# Altium schematic symbol library Schlib_STM.SchLib: 10 symbols
Pins are listed as number, name and electrical type; pins without a type are passive.

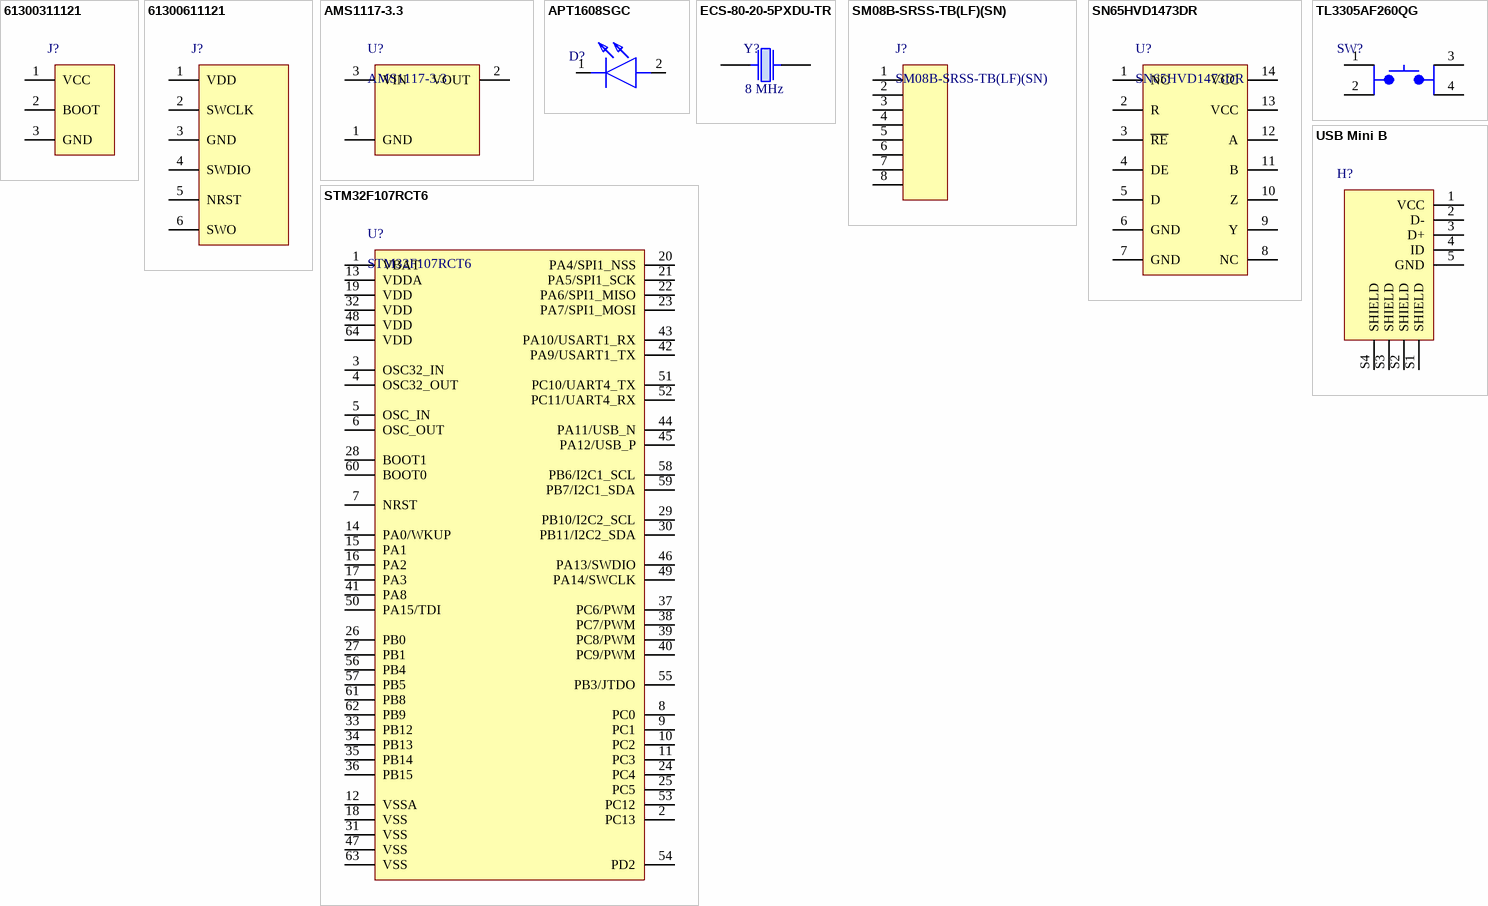
[diagram p0: symbols 61300311121 to USB Mini B]

## 61300311121
designator J?  (value not drawn)
CONN HEADER VERT 3POS 2.54MM; Manufacturer: Wurth Electronics; Number of Positions: 3; Gender: Male; Pitch: 0.1inch; Designed by: ADAK; Supplier 1: Digi-Key; Manufacturer Part Number: 61300311121; RoHS: Yes; Category: Connectors; Stock 1: 116212; Pricing 1: 1=0,13, 10=0,113, 25=0,094, 50=0,079, 100=0,071, 1000=0,066 (USD); Mount: Through Hole; Contact Plating: Gold; Contact Material: Copper; Color: Black; Number of Rows: 1; Packaging: Bulk; Termination: Solder; Number of Contacts: 3; Series: WR-PHD; Contact Type: Male Pin; Contact Mating Length: 0.236inch; Lead Free: Lead Free; RoHS Compliant: Yes; Reach SVHC Compliant: Unknown; ComponentLink1URL: http://www.farnell.com/cad/1737268.pdf?src-supplier=Element14; ComponentLink1Description: http://www.farnell.com/cad/1737268.pdf?src-supplier=Element14; ComponentLink2URL: https://datasheet.octopart.com/61300311121-W%C3%BCrth-Elektronik-datasheet-21154836.pdf?src-supplier=Element14; ComponentLink2Description: https://datasheet.octopart.com/61300311121-W%C3%BCrth-Elektronik-datasheet-21154836.pdf?src-supplier=Element14; ComponentLink3URL: https://katalog.we-online.de/em/datasheet/6130xx11121.pdf?src-supplier=Digi-Key; ComponentLink3Description: https://katalog.we-online.de/em/datasheet/6130xx11121.pdf?src-supplier=Digi-Key; Supplier Part Number 1: 732-5316-ND
footprint BOOT HEADER
pins: 1 VCC, 2 BOOT, 3 GND

## 61300611121
designator J?  (value not drawn)
CONN HEADER VERT 6POS 2.54MM; Manufacturer: Wurth Electronics; Current Rating: 3A; Voltage Rating: 250V; Number of Positions: 6; Gender: Male; Pitch: 0.1inch; Designed by: ADAK; Supplier 1: Digi-Key; Manufacturer Part Number: 61300611121; RoHS: Yes; Category: Headers and Wire Housings; Stock 1: 10537; Pricing 1: 1=0,35, 10=0,298, 25=0,2472, 50=0,207, 100=0,187, 1000=0,171 (USD); Mount: Through Hole; Contact Plating: Gold; Contact Material: Copper Alloy,Copper; Housing Material: PBT; Color: Black; Min Operating Temperature: -40°C; Max Operating Temperature: 125°C; Number of Rows: 1; Contact Gender: Male; Packaging: Bulk; Termination: Through Hole; Number of Contacts: 6; Series: WR-PHD; Contact Type: Male Pin; Contact Mating Length: 0.236inch; Lead Free: Lead Free; RoHS Compliant: Yes; Reach SVHC Compliant: Unknown; ComponentLink1URL: http://www.mouser.com/ds/2/445/6130xx11121-538006.pdf?src-supplier=Mouser; ComponentLink1Description: http://www.mouser.com/ds/2/445/6130xx11121-538006.pdf?src-supplier=Mouser; ComponentLink2URL: http://www.farnell.com/cad/1737268.pdf?src-supplier=Element14; ComponentLink2Description: http://www.farnell.com/cad/1737268.pdf?src-supplier=Element14; ComponentLink3URL: https://datasheet.octopart.com/61300611121-W%C3%BCrth-Elektronik-datasheet-21154836.pdf?src-supplier=Element14; ComponentLink3Description: https://datasheet.octopart.com/61300611121-W%C3%BCrth-Elektronik-datasheet-21154836.pdf?src-supplier=Element14; ComponentLink4URL: https://katalog.we-online.de/em/datasheet/6130xx11121.pdf?src-supplier=Digi-Key; ComponentLink4Description: https://katalog.we-online.de/em/datasheet/6130xx11121.pdf?src-supplier=Digi-Key; Supplier Part Number 1: 732-5319-ND
footprint SWD HEADER
pins: 1 VDD, 2 SWCLK, 3 GND, 4 SWDIO, 5 NRST, 6 SWO

## AMS1117-3.3
designator U?
Low Dropout Voltage Regulatator SOT-223 1A 3.3V; Designed by: ADAK; Package: SOT-223; Voltage-Ouptut(Fixed): 3.3V; Current: 1A
footprint SOT-223
pins: 1 GND, 2 VOUT, 3 VIN

## APT1608SGC
designator D?  (value not drawn)
LED GREEN CLEAR 0603 SMD; Manufacturer: Kingbright; Forward Voltage: 2.2V; Viewing Angle: 120°; Forward Current: 20mA; Luminous Intensity: 15mcd; Lens Style: Clear,Flat; Dominant Wavelength: 568nm; Number of LEDs: 1; Designed by: ADAK; Supplier 1: Digi-Key; Manufacturer Part Number: APT1608SGC; RoHS: Yes; Category: LEDs; Stock 1: 356278; Pricing 1: 1=0,3, 10=0,237, 100=0,1064, 500=0,0961, 1000=0,07894 (USD); Mount: Surface Mount; Case/Package: 0603; Number of Pins: 2; Color: Green; Case Code (Metric): 1608; Case Code (Imperial): 0603; Lens Color: Clear; Min Operating Temperature: -40°C; Max Operating Temperature: 85°C; Package Quantity: 2000; Illumination Color: Green; Packaging: Tape and Reel; Test Current: 20mA; Wavelength: 568nm; Series: APT; Length: 1.6mm; Width: 0.8mm; Height: 0.75mm; Lead Free: Lead Free; RoHS Compliant: Yes; ComponentLink1URL: https://datasheet.ciiva.com/12400/apt1608sgc-32861-12400932.pdf?src-supplier=Mouser; ComponentLink1Description: https://datasheet.ciiva.com/12400/apt1608sgc-32861-12400932.pdf?src-supplier=Mouser; ComponentLink2URL: https://datasheet.ciiva.com/2113/apt1608sgc-2113808.pdf?src-supplier=Digi-Key; ComponentLink2Description: https://datasheet.ciiva.com/2113/apt1608sgc-2113808.pdf?src-supplier=Digi-Key; ComponentLink3URL: https://datasheet.ciiva.com/14603/70062839-14603927.pdf?src-supplier=Allied+Electronics; ComponentLink3Description: https://datasheet.ciiva.com/14603/70062839-14603927.pdf?src-supplier=Allied+Electronics; Supplier Part Number 1: 754-1121-1-ND
footprint LED GREEN
pins: 1 K, 2 A

## ECS-80-20-5PXDU-TR
designator Y?  Frequency: 8 MHz  (hidden comment: ECS-80-20-5PXDU-TR)
CRYSTAL 8.0000MHZ 20PF SMD; Manufacturer: ECS International; Designed by: ADAK; Supplier 1: Digi-Key; Manufacturer Part Number: ECS-80-20-5PXDU-TR; RoHS: Yes; Category: Crystals; Stock 1: 109954; Pricing 1: 1=0,48, 10=0,402, 50=0,362, 100=0,3218, 500=0,30572 (USD); ComponentLink1URL: https://datasheet.ciiva.com/852/csm-7x-du-852880.pdf?src-supplier=Digi-Key; ComponentLink1Description: https://datasheet.ciiva.com/852/csm-7x-du-852880.pdf?src-supplier=Digi-Key; ComponentLink2URL: https://datasheet.ciiva.com/852/csm-7x-du-852879.pdf?src-supplier=Digi-Key; ComponentLink2Description: https://datasheet.ciiva.com/852/csm-7x-du-852879.pdf?src-supplier=Digi-Key; ComponentLink3URL: https://datasheet.ciiva.com/852/csm-7x-du-852881.pdf?src-supplier=Digi-Key; ComponentLink3Description: https://datasheet.ciiva.com/852/csm-7x-du-852881.pdf?src-supplier=Digi-Key; ComponentLink4URL: https://datasheet.ciiva.com/4946/csm-7x-du-4946102.pdf?src-supplier=Mouser; ComponentLink4Description: https://datasheet.ciiva.com/4946/csm-7x-du-4946102.pdf?src-supplier=Mouser; Supplier Part Number 1: XC1526CT-ND
footprint OSC
pins: 1, 2

## SM08B-SRSS-TB(LF)(SN)
designator J?
Connector Header, Side Entry, SR Series, 8 Position, 1.00mm, 50V, Surface Mount, Tin, Natural; Manufacturer: JST; Designed by: ADAK; Supplier 1: Farnell; Manufacturer Part Number: SM08B-SRSS-TB(LF)(SN); RoHS: Yes; Category: Connectors; Stock 1: 77890; Pricing 1: 10=0,776, 100=0,639, 500=0,522, 1000=0,464, 2500=0,443, 5000=0,421 (EUR); ComponentLink1URL: https://datasheet.ciiva.com/11752/0900766b8082f54b-11752174.pdf?src-supplier=Rs; ComponentLink1Description: https://datasheet.ciiva.com/11752/0900766b8082f54b-11752174.pdf?src-supplier=Rs; ComponentLink2URL: https://datasheet.ciiva.com/8052/91630-8052285.pdf?src-supplier=Element14; ComponentLink2Description: https://datasheet.ciiva.com/8052/91630-8052285.pdf?src-supplier=Element14; ComponentLink3URL: https://datasheet.ciiva.com/729/esr-729838.pdf?src-supplier=Digi-Key; ComponentLink3Description: https://datasheet.ciiva.com/729/esr-729838.pdf?src-supplier=Digi-Key; ComponentLink4URL: https://datasheet.ciiva.com/712/esr-712599.pdf?src-supplier=Digi-Key; ComponentLink4Description: https://datasheet.ciiva.com/712/esr-712599.pdf?src-supplier=Digi-Key; ComponentLink5URL: https://datasheet.ciiva.com/712/esr-712600.pdf?src-supplier=Digi-Key; ComponentLink5Description: https://datasheet.ciiva.com/712/esr-712600.pdf?src-supplier=Digi-Key; ComponentLink6URL: https://datasheet.ciiva.com/16487/esr-16487087.pdf?src-supplier=Future+Electronics; ComponentLink6Description: https://datasheet.ciiva.com/16487/esr-16487087.pdf?src-supplier=Future+Electronics; Supplier Part Number 1: 1679124
footprint 8 PIN HEADER
pins: 1, 2, 3, 4, 5, 6, 7, 8

## SN65HVD1473DR
designator U?
IC TRANSCEIVER FULL 1/1 14SOIC; Manufacturer: Texas Instruments; Designed by: ADAK; Supplier 1: Digi-Key; Manufacturer Part Number: SN65HVD1473DR; RoHS: Yes; Category: Interface ICs; Stock 1: 2430; Pricing 1: 1=4,39, 10=3,94, 25=3,7248, 100=3,228, 250=3,06248, 500=2,74794, 1000=2,31755 (USD); ComponentLink1URL: http://www.ti.com/general/docs/suppproductinfo.tsp?distId=10&amp;gotoUrl=http%3A%2F%2Fwww.ti.com%2Flit%2Fgpn%2Fsn65hvd1473&src-supplier=Digi-Key; ComponentLink1Description: http://www.ti.com/general/docs/suppproductinfo.tsp?distId=10&amp;gotoUrl=http%3A%2F%2Fwww.ti.com%2Flit%2Fgpn%2Fsn65hvd1473&src-supplier=Digi-Key; ComponentLink2URL: http://www.ti.com/lit/ds/symlink/sn65hvd1473.pdf?src-supplier=Digi-Key; ComponentLink2Description: http://www.ti.com/lit/ds/symlink/sn65hvd1473.pdf?src-supplier=Digi-Key; ComponentLink3URL: http://www.ti.com/general/docs/lit/getliterature.tsp?genericPartNumber=SN65HVD1477&&fileType=pdf&src-supplier=Avnet; ComponentLink3Description: http://www.ti.com/general/docs/lit/getliterature.tsp?genericPartNumber=SN65HVD1477&&fileType=pdf&src-supplier=Avnet; Supplier Part Number 1: 296-40505-1-ND
footprint 14-SOIC
pins: 1 NC, 2 R, 3 ~{RE}, 4 DE, 5 D, 6 GND, 7 GND, 8 NC, 9 Y, 10 Z, 11 B, 12 A, 13 VCC, 14 VCC

## STM32F107RCT6
designator U?
IC MCU 32BIT 256KB FLASH 64LQFP; Manufacturer: STMicroelectronics; Max Supply Voltage: 3.6V; Frequency: 72MHz; Interface: I2C,SPI,USB,CAN,Ethernet,IrDA,UART,USART,LIN,I2S; RAM Size: 64KB; Max Power Dissipation: 444mW; Number of I/Os: 51; Number of Timers/Counters: 7; Number of PWM Channels: 16; Number of Ethernet Channels: 1; Min Supply Voltage: 2V; Data Bus Width: 32b; Oscillator Type: Internal; Number of SPI Channels: 3; Watchdog Timer: Yes; Peripherals: POR,PWM,WDT,DMA,Voltage Detect,I2C; Core Architecture: ARM; Designed by: ADAK; Supplier 1: Digi-Key; RoHS: Yes; Category: Microcontrollers; Stock 1: 1012; Pricing 1: 1=10,39, 10=9,39, 25=8,9536, 160=7,77419, 320=7,42478, 480=6,76965, 960=6,18045 (USD); Case/Package: LQFP; Number of Pins: 64; Min Operating Temperature: -40°C; Max Operating Temperature: 85°C; Package Quantity: 160; Number of ADC Channels: 16; Density: 256KB; Packaging: Tray; Number of Programmable I/O: 51; Termination: SMD/SMT; Max Frequency: 72MHz; Number of I2C Channels: 1; Memory Type: FLASH; Memory Size: 256KB; Series: STM32 F1; Length: 10mm; Width: 10mm; Height: 1.45mm; Radiation Hardening: No; Reach SVHC Compliant: No; Lead Free: Lead Free; RoHS Compliant: Yes; ComponentLink1URL: https://datasheet.ciiva.com/8054/1455641-8054992.pdf?src-supplier=Element14; ComponentLink1Description: https://datasheet.ciiva.com/8054/1455641-8054992.pdf?src-supplier=Element14; Supplier Part Number 1: 497-8914-ND; Manufacturer Part Number: STM32F107RCT6
footprint STM32F107RCT6
pins: 1 VBAT, 2 PC13, 3 OSC32_IN, 4 OSC32_OUT, 5 OSC_IN, 6 OSC_OUT, 7 NRST, 8 PC0, 9 PC1, 10 PC2, 11 PC3, 12 VSSA, 13 VDDA, 14 PA0/WKUP, 15 PA1, 16 PA2, 17 PA3, 18 VSS, 19 VDD, 20 PA4/SPI1_NSS, 21 PA5/SPI1_SCK, 22 PA6/SPI1_MISO, 23 PA7/SPI1_MOSI, 24 PC4, 25 PC5, 26 PB0, 27 PB1, 28 BOOT1, 29 PB10/I2C2_SCL, 30 PB11/I2C2_SDA, 31 VSS, 32 VDD, 33 PB12, 34 PB13, 35 PB14, 36 PB15, 37 PC6/PWM, 38 PC7/PWM, 39 PC8/PWM, 40 PC9/PWM, 41 PA8, 42 PA9/USART1_TX, 43 PA10/USART1_RX, 44 PA11/USB_N, 45 PA12/USB_P, 46 PA13/SWDIO, 47 VSS, 48 VDD, 49 PA14/SWCLK, 50 PA15/TDI, 51 PC10/UART4_TX, 52 PC11/UART4_RX, 53 PC12, 54 PD2, 55 PB3/JTDO, 56 PB4, 57 PB5, 58 PB6/I2C1_SCL, 59 PB7/I2C1_SDA, 60 BOOT0, 61 PB8, 62 PB9, 63 VSS, 64 VDD

## TL3305AF260QG
designator SW?  (value not drawn)
SWITCH TACTILE SPST-NO 50MA 12V; Manufacturer: E-Switch; Mechanical Life: 200000Cycles; Illumination Type: Non-Illuminated; Operating Force: 260gf; Throw Configuration: SPST; Switch Travel: 0.2mm; Switch Function: Off-Mom; Actuator Type: Standard; Designed by: ADAK; Supplier 1: Digi-Key; Manufacturer Part Number: TL3305AF260QG; RoHS: No; Category: Tactile Switches; Stock 1: 83741; Pricing 1: 1=0,21, 10=0,205, 25=0,1944, 100=0,176, 250=0,16048, 500=0,14918, 1000=0,12726 (USD); Mount: Surface Mount; Min Operating Temperature: -20°C; Max Operating Temperature: 70°C; Packaging: Cut Tape; Termination: Gull Wing; Series: TL3305; Lead Free: Lead Free; ComponentLink1URL: http://www.farnell.com/datasheets/2554191.pdf?src-supplier=Farnell; ComponentLink1Description: http://www.farnell.com/datasheets/2554191.pdf?src-supplier=Farnell; ComponentLink2URL: http://www.farnell.com/datasheets/2554191.pdf?src-supplier=Newark; ComponentLink2Description: http://www.farnell.com/datasheets/2554191.pdf?src-supplier=Newark; ComponentLink3URL: http://spec_sheets.e-switch.com/specs/P010471.pdf?src-supplier=Mouser; ComponentLink3Description: http://spec_sheets.e-switch.com/specs/P010471.pdf?src-supplier=Mouser; ComponentLink4URL: http://www.farnell.com/datasheets/2554191.pdf?src-supplier=Element14; ComponentLink4Description: http://www.farnell.com/datasheets/2554191.pdf?src-supplier=Element14; ComponentLink5URL: http://spec_sheets.e-switch.com/specs/P010471.pdf?src-supplier=Digi-Key; ComponentLink5Description: http://spec_sheets.e-switch.com/specs/P010471.pdf?src-supplier=Digi-Key; ComponentLink6URL: http://spec_sheets.e-switch.com/specs/P010471.pdf?src-supplier=NAC+Semi; ComponentLink6Description: http://spec_sheets.e-switch.com/specs/P010471.pdf?src-supplier=NAC+Semi; Supplier Part Number 1: EG5353CT-ND
footprint RESET BUTTON
pins: 1, 2, 3, 4

## USB Mini B
designator H?, comment 690-005-299-043  (value not drawn)
CONN RCPT USB2.0 MINI B SMD R/A; Manufacturer: EDAC; Connector Type: USB; Number of Contacts: 5; Gender: Receptacle; Number of Ports: 1; Mating Cycles: 1500; Shielding: Unshielded; Pitch: 0.8mm; Designed by: ADAK; Supplier 1: Digi-Key; Manufacturer Part Number: 690-005-299-043; RoHS: No; Category: USB Connectors; Stock 1: 72958; Pricing 1: 1=0,65, 10=0,564, 25=0,5152, 50=0,4848, 100=0,4646, 250=0,4242, 500=0,404 (USD); Mount: Surface Mount,Horizontal; Color: Black; Contact Material: Bronze; Contact Plating: Gold; Housing Material: Thermoplastic; Insulation Color: Black; Min Operating Temperature: -30°C; Max Operating Temperature: 80°C; Packaging: Cut Tape; Termination: Solder; Orientation: Right Angle; Series: 690; Lead Free: Lead Free; Flammability Rating: UL94 V-0; ComponentLink1URL: https://datasheet.ciiva.com/30246/690-005-299-043-30246515.pdf?src-supplier=Onlinecomponents.com; ComponentLink1Description: https://datasheet.ciiva.com/30246/690-005-299-043-30246515.pdf?src-supplier=Onlinecomponents.com; ComponentLink2URL: https://datasheet.ciiva.com/29660/690-005-299-043-29660027.pdf?src-supplier=Digi-Key; ComponentLink2Description: https://datasheet.ciiva.com/29660/690-005-299-043-29660027.pdf?src-supplier=Digi-Key; ComponentLink3URL: https://datasheet.ciiva.com/29660/690-005-299-043-29660028.pdf?src-supplier=Digi-Key; ComponentLink3Description: https://datasheet.ciiva.com/29660/690-005-299-043-29660028.pdf?src-supplier=Digi-Key; ComponentLink4URL: https://datasheet.ciiva.com/29660/690-005-299-043-29660029.pdf?src-supplier=Digi-Key; ComponentLink4Description: https://datasheet.ciiva.com/29660/690-005-299-043-29660029.pdf?src-supplier=Digi-Key; Supplier Part Number 1: 151-1206-1-ND
footprint USB
pins: 1 VCC, 2 D-, 3 D+, 4 ID, 5 GND, S1 SHIELD, S2 SHIELD, S3 SHIELD, S4 SHIELD